# Altium footprint library HD_SAMPLE_V1.4.PcbLib: 21 footprints (part 2 of 2)
Each footprint in its own frame and in the unit in brackets; x right, y up, seen from the top. Pads: shape width x height; smd on the part's side, far side on the other; paste and mask are expansions set on the pad; w line width, h text height; cw(c..) or ccw(c..) is an arc to the next point about the centre after c.
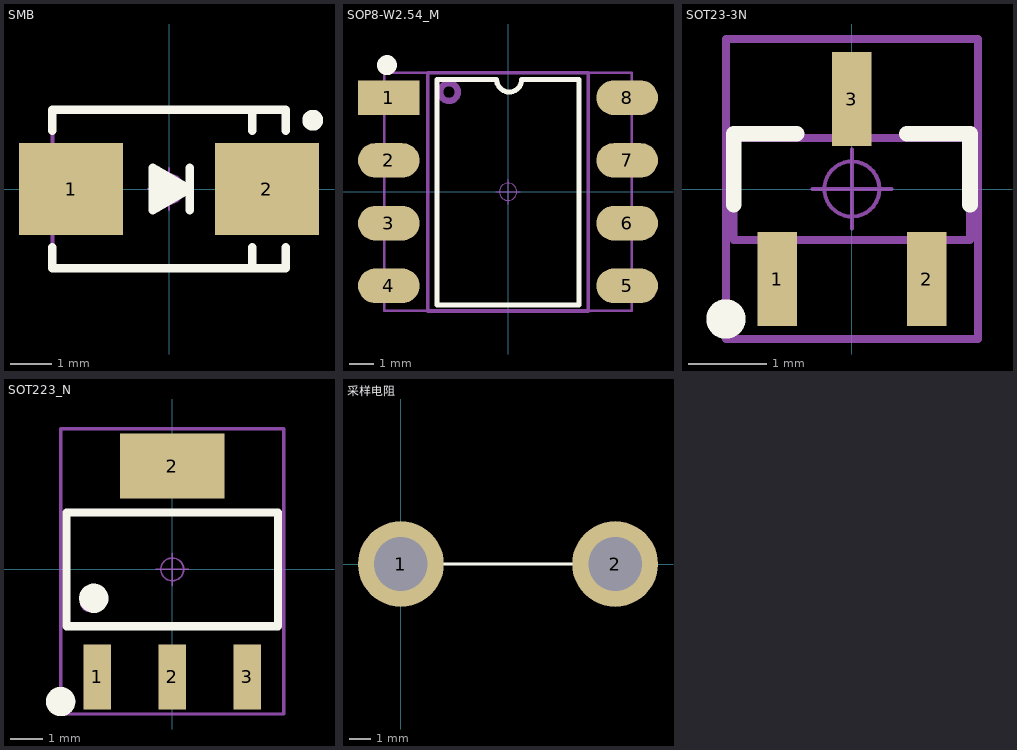
[diagram p1: the footprints below, top view; thin cyan lines are the x and y axes]

## SMB [mm] "4.7*3.9*2.2mm(长宽高，不包括引脚）"
height 2.4
pads (2):
  rect 2.5x2.2 smd: 1(-2.35,0) 2(2.35,0)
Top Overlay:
  circle w0.25: c3.45,1.65 r0.125
  lines w0.2: -2.8,-1.4 -2.8,-1.9 2.8,-1.9 2.8,-1.4 ; -2.8,1.4 -2.8,1.9 2.8,1.9 2.8,1.4 ; 2,-1.9 2,-1.4 ; 2,1.4 2,1.9
  lines w0.203: 0.5,-0.508 0.5,0.508 ; -0.389,-0.508 0.5,0 -0.389,0.508 -0.389,-0.508
  lines w0.254: -0.254,0 0.279,0 ; 0.279,0 -0.229,-0.305 -0.229,0.279 0.279,0
Mechanical 13:
  lines w0.1: 2.8,-1.9 -2.8,-1.9 -2.8,1.9 2.8,1.9
Mechanical 15:
  circle w0.05: c0,0 r0.35
  lines w0.05: -0.5,0 0.5,0 ; 0,-0.5 0,0.5
3D body "SMB.STEP": height 2.35, standoff 0.04, extent -2.629,-1.8 2.675,1.8

## SOP8-W2.54_M [mm] "6.5*9.66*3.5mm（长宽高）"
pads (8):
  rect 2.5x1.4 smd: 1(-4.826,3.81)
  oval 2.5x1.4 smd: 2(-4.826,1.27) 3(-4.826,-1.27) 4(-4.826,-3.81) 5(4.826,-3.81) 6(4.826,-1.27) 7(4.826,1.27) 8(4.826,3.81)
Top Overlay:
  circle w0.5: c-4.904,5.131 r0.155
  lines w0.2: -2.87,4.552 -2.87,-4.592 2.87,-4.592 2.87,4.552
  lines w0.203: -2.87,4.552 -0.46,4.552 ccw(c0.048,4.552) 0.048,4.044 ccw(c0.048,4.552) 0.556,4.552 2.87,4.552
Mechanical 13:
  circle w0.254: c-2.391,4.039 r0.359
  lines w0.15: -3.25,-4.826 3.25,-4.826 3.25,4.826 -3.25,4.826 -3.25,-4.826
Mechanical 15:
  circle w0.05: c0,0 r0.35
  lines w0.05: -0.5,0 0.5,0 ; 0,-0.5 0,0.5
  lines w0.1: -5.004,-4.826 5.004,-4.826 5.004,4.826 -5.004,4.826 -5.004,-4.826
3D body "SOP8-W2.54.STEP": height 3.82, standoff -0.03, extent -5,-4.83 5,4.83

## SOT23-3N [mm] "3x1.3x1mm(长宽高)"
height 1.1
pads (3):
  rect 0.5x1.2 smd: 1(-0.95,-1.143) 2(0.95,-1.143) 3(0,1.143)
Top Overlay:
  circle w0.25: c-1.6,-1.651 r0.125
  lines w0.2: -1.501,-0.2 -1.501,0.7 -0.701,0.7 ; 0.699,0.7 1.499,0.7 1.499,-0.2
Mechanical 13:
  lines w0.1: -1.5,-0.65 -1.5,0.65 1.5,0.65 1.5,-0.65 -1.5,-0.65
Mechanical 15:
  circle w0.05: c0,0 r0.35
  lines w0.05: -0.5,0 0.5,0 ; 0,-0.5 0,0.5
  lines w0.1: -1.6,-1.905 -1.6,1.905 1.6,1.905 1.6,-1.905 -1.6,-1.905
3D body "SOT23-3.STEP": height 1.05, standoff 0, extent -1.5,-1.2 1.5,1.2

## SOT223_N [mm] "6.4x7x1.6mm(长宽高)"
height 1.7
pads (4):
  rect 0.85x2 smd: 1(-2.3,-3.302) 2(0,-3.302) 3(2.3,-3.302)
  rect 3.2x2 smd: 2(0,3.175)
Top Overlay:
  circle w0.5: c-2.413,-0.889 r0.2
  circle w0.5: c-3.429,-4.064 r0.2
  lines w0.25: -3.25,-1.75 -3.25,1.75 3.25,1.75 3.25,-1.75 -3.25,-1.75
Mechanical 13:
  circle w0.1: c-2.536,-1.016 r0.25
  lines w0.1: -3.25,-1.75 3.25,-1.75 3.25,1.75 -3.25,1.75 -3.25,-1.75
Mechanical 15:
  circle w0.05: c0,0 r0.35
  lines w0.05: -0.5,0 0.5,0 ; 0,-0.5 0,0.5
  lines w0.1: -3.429,-4.445 3.429,-4.445 3.429,4.318 -3.429,4.318 -3.429,-4.445
3D body "SOT223.STEP": height 1.65, standoff -0.02, extent -3.25,-3.508 3.25,3.508

## 采样电阻 [mm]
height 2.54
pads (2):
  round 4 hole 2.5: 1(0,0) 2(10,0)
Top Overlay:
  lines w0.15: 1.524,0 8.509,0